# Altium footprint library EC11.PcbLib: 1 footprints
Each footprint in its own frame and in the unit in brackets; x right, y up, seen from the top. Pads: shape width x height; smd on the part's side, far side on the other; paste and mask are expansions set on the pad; w line width, h text height; cw(c..) or ccw(c..) is an arc to the next point about the centre after c.
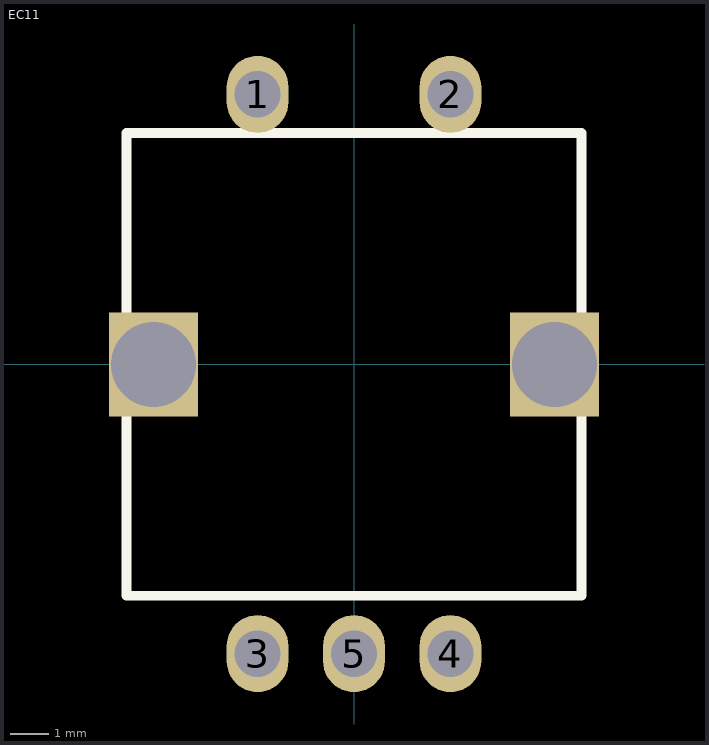
[diagram p0: the footprint, top view; thin cyan lines are the x and y axes]

## EC11 [mm] "旋转编码开关"
height 0.508
pads (7):
  oval 1.6x2 hole 1.2: 1(-2.5,7) 2(2.5,7) 3(-2.5,-7.5) 4(2.5,-7.5) 5(0,-7.5)
  rect 2.3x2.7 hole 2.2 square: ""(-5.2,0) ""(5.2,0)
Top Overlay:
  lines w0.254: -5.9,-6 5.9,-6 5.9,6 -5.9,6 -5.9,-6
3D body: height 6.5, standoff 0, extent -5.842,-5.969 5.842,5.969
3D body: height 0.25, standoff 0, extent -5.842,5.969 5.969,5.969
3D body: height 0.25, standoff 0, extent -9.652,-0.635 -9.652,-0.635